# Altium footprint library SOP - SmallOutlinePackage.PcbLib: 21 footprints (part 2 of 2)
Each footprint in its own frame and in the unit in brackets; x right, y up, seen from the top. Pads: shape width x height; smd on the part's side, far side on the other; paste and mask are expansions set on the pad; w line width, h text height; cw(c..) or ccw(c..) is an arc to the next point about the centre after c.
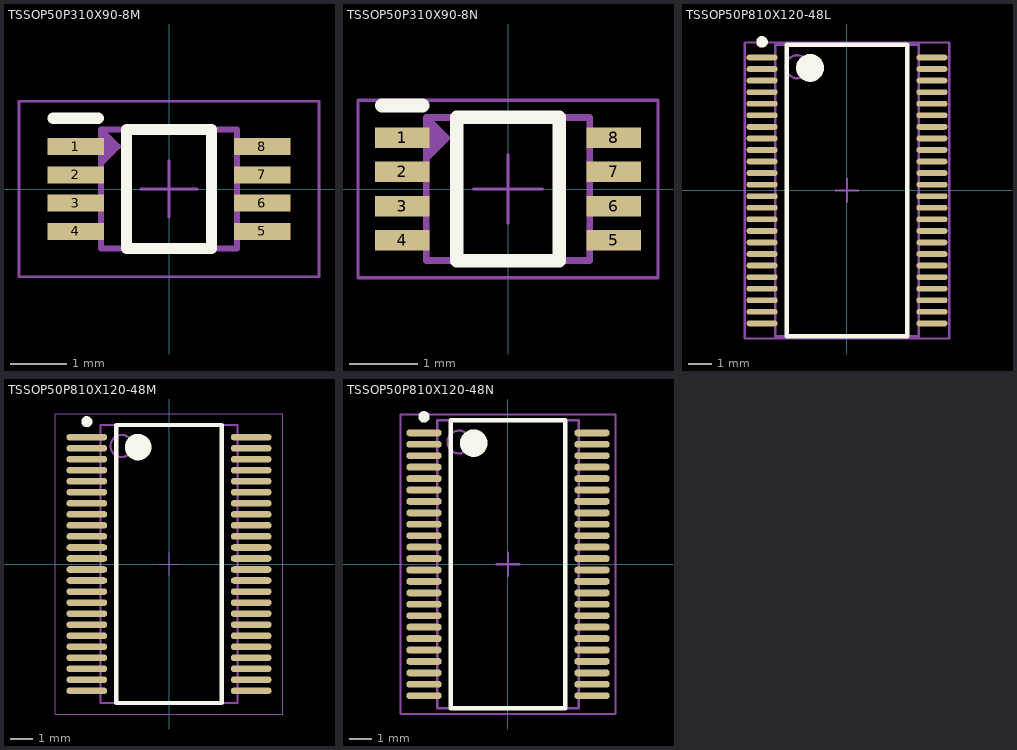
[diagram p1: the footprints below, top view; thin cyan lines are the x and y axes]

## TSSOP50P310X90-8M [mm] "TSSOP, 8-Leads, Body 2.1x2.4mm (max), Pitch 0.50mm, IPC Low Density"
height 0.9
pads (8):
  rect 1x0.3 smd: 1(-1.65,0.75) 2(-1.65,0.25) 3(-1.65,-0.25) 4(-1.65,-0.75) 5(1.65,-0.75) 6(1.65,-0.25) 7(1.65,0.25) 8(1.65,0.75)
Top Overlay:
  lines w0.2: -2.05,1.25 -1.25,1.25 ; -0.75,-1.05 -0.75,1.05 0.75,1.05 0.75,-1.05 -0.75,-1.05
TopBody:
  lines w0.1: -1.2,0.45 -0.9,0.75 -1.2,1.05 ; -1.2,0.55 -1,0.75 -1.2,0.95 ; -1.2,0.65 -1.1,0.75 -1.2,0.85 ; -1.2,1.05 -1.2,-1.05 1.2,-1.05 1.2,1.05 -1.2,1.05
  text ".Designator" at 0.254,-0.635 h0.5
TopCourtyard:
  lines w0.05: -0.5,0 0,0 ; 0,-0.5 0,0 ; 0,0.5 0,0 ; 0.5,0 0,0 ; -2.65,-1.55 -2.65,1.55 2.65,1.55 2.65,-1.55 -2.65,-1.55
3D body: height 0.9, standoff 0, extent -1.2,-1.05 1.2,1.05

## TSSOP50P310X90-8N [mm] "TSSOP, 8-Leads, Body 2.1x2.4mm (max), Pitch 0.50mm, IPC Medium Density"
height 0.9
pads (8):
  rect 0.8x0.3 smd: 1(-1.55,0.75) 2(-1.55,0.25) 3(-1.55,-0.25) 4(-1.55,-0.75) 5(1.55,-0.75) 6(1.55,-0.25) 7(1.55,0.25) 8(1.55,0.75)
Top Overlay:
  lines w0.2: -1.85,1.225 -1.25,1.225 ; -0.75,-1.05 -0.75,1.05 0.75,1.05 0.75,-1.05 -0.75,-1.05
TopBody:
  lines w0.1: -1.2,0.45 -0.9,0.75 -1.2,1.05 ; -1.2,0.55 -1,0.75 -1.2,0.95 ; -1.2,0.65 -1.1,0.75 -1.2,0.85 ; -1.2,1.05 -1.2,-1.05 1.2,-1.05 1.2,1.05 -1.2,1.05
  text ".Designator" at 0.254,-0.635 h0.5
TopCourtyard:
  lines w0.05: -0.5,0 0,0 ; 0,-0.5 0,0 ; 0,0.5 0,0 ; 0.5,0 0,0 ; -2.2,-1.3 -2.2,1.3 2.2,1.3 2.2,-1.3 -2.2,-1.3
3D body: height 0.9, standoff 0, extent -1.2,-1.05 1.2,1.05

## TSSOP50P810X120-48L [mm] "TSSOP, 48-Leads, Body 12.6x6.2mm (max), Pitch 0.50mm, IPC High Density"
height 1.2
pads (48):
  oval 1.35x0.25 smd: 1(-3.675,5.75) 2(-3.675,5.25) 3(-3.675,4.75) 4(-3.675,4.25) 5(-3.675,3.75) 6(-3.675,3.25) 7(-3.675,2.75) 8(-3.675,2.25) 9(-3.675,1.75) 10(-3.675,1.25) 11(-3.675,0.75) 12(-3.675,0.25) 13(-3.675,-0.25) 14(-3.675,-0.75) 15(-3.675,-1.25) 16(-3.675,-1.75) 17(-3.675,-2.25) 18(-3.675,-2.75) 19(-3.675,-3.25) 20(-3.675,-3.75) 21(-3.675,-4.25) 22(-3.675,-4.75) 23(-3.675,-5.25) 24(-3.675,-5.75) 25(3.675,-5.75) 26(3.675,-5.25) 27(3.675,-4.75) 28(3.675,-4.25) 29(3.675,-3.75) 30(3.675,-3.25) 31(3.675,-2.75) 32(3.675,-2.25) 33(3.675,-1.75) 34(3.675,-1.25) 35(3.675,-0.75) 36(3.675,-0.25) 37(3.675,0.25) 38(3.675,0.75) 39(3.675,1.25) 40(3.675,1.75) 41(3.675,2.25) 42(3.675,2.75) 43(3.675,3.25) 44(3.675,3.75) 45(3.675,4.25) 46(3.675,4.75) 47(3.675,5.25) 48(3.675,5.75)
Top Overlay:
  circle w0.25: c-3.675,6.425 r0.125
  circle w0.6: c-1.6,5.3 r0.3
  lines w0.2: -2.6,-6.3 -2.6,6.3 2.6,6.3 2.6,-6.3 -2.6,-6.3
TopBody:
  circle w0.1: c-2.15,5.35 r0.5
  lines w0.1: -3.1,-6.3 -3.1,6.3 3.1,6.3 3.1,-6.3 -3.1,-6.3
TopCourtyard:
  lines w0.1: -0.5,0 0.5,0 ; 0,-0.5 0,0.5 ; -4.425,-6.4 -4.425,6.4 4.425,6.4 4.425,-6.4 -4.425,-6.4
3D body: height 1.2, standoff 0.05, extent -3.1,-6.3 3.1,6.3

## TSSOP50P810X120-48M [mm] "TSSOP, 48-Leads, Body 12.6x6.2mm (max), Pitch 0.50mm, IPC Low Density"
height 1.2
pads (48):
  oval 1.85x0.3 smd: 1(-3.725,5.75) 2(-3.725,5.25) 3(-3.725,4.75) 4(-3.725,4.25) 5(-3.725,3.75) 6(-3.725,3.25) 7(-3.725,2.75) 8(-3.725,2.25) 9(-3.725,1.75) 10(-3.725,1.25) 11(-3.725,0.75) 12(-3.725,0.25) 13(-3.725,-0.25) 14(-3.725,-0.75) 15(-3.725,-1.25) 16(-3.725,-1.75) 17(-3.725,-2.25) 18(-3.725,-2.75) 19(-3.725,-3.25) 20(-3.725,-3.75) 21(-3.725,-4.25) 22(-3.725,-4.75) 23(-3.725,-5.25) 24(-3.725,-5.75) 25(3.725,-5.75) 26(3.725,-5.25) 27(3.725,-4.75) 28(3.725,-4.25) 29(3.725,-3.75) 30(3.725,-3.25) 31(3.725,-2.75) 32(3.725,-2.25) 33(3.725,-1.75) 34(3.725,-1.25) 35(3.725,-0.75) 36(3.725,-0.25) 37(3.725,0.25) 38(3.725,0.75) 39(3.725,1.25) 40(3.725,1.75) 41(3.725,2.25) 42(3.725,2.75) 43(3.725,3.25) 44(3.725,3.75) 45(3.725,4.25) 46(3.725,4.75) 47(3.725,5.25) 48(3.725,5.75)
Top Overlay:
  circle w0.6: c-1.4,5.3 r0.3
  circle w0.25: c-3.725,6.45 r0.125
  lines w0.2: -2.4,-6.3 2.4,-6.3 2.4,6.3 -2.4,6.3 -2.4,-6.3
TopBody:
  circle w0.1: c-2.15,5.35 r0.5
  lines w0.1: -3.1,-6.3 3.1,-6.3 3.1,6.3 -3.1,6.3 -3.1,-6.3
TopCourtyard:
  lines w0.05: -0.5,0 0.5,0 ; 0,-0.5 0,0.5 ; -5.15,-6.8 5.15,-6.8 5.15,6.8 -5.15,6.8 -5.15,-6.8
3D body: height 1.2, standoff 0.05, extent -3.1,-6.3 3.1,6.3

## TSSOP50P810X120-48N [mm] "TSSOP, 48-Leads, Body 12.6x6.2mm (max), Pitch 0.50mm, IPC Medium Density"
height 1.2
pads (48):
  oval 1.55x0.3 smd: 1(-3.675,5.75) 2(-3.675,5.25) 3(-3.675,4.75) 4(-3.675,4.25) 5(-3.675,3.75) 6(-3.675,3.25) 7(-3.675,2.75) 8(-3.675,2.25) 9(-3.675,1.75) 10(-3.675,1.25) 11(-3.675,0.75) 12(-3.675,0.25) 13(-3.675,-0.25) 14(-3.675,-0.75) 15(-3.675,-1.25) 16(-3.675,-1.75) 17(-3.675,-2.25) 18(-3.675,-2.75) 19(-3.675,-3.25) 20(-3.675,-3.75) 21(-3.675,-4.25) 22(-3.675,-4.75) 23(-3.675,-5.25) 24(-3.675,-5.75) 25(3.675,-5.75) 26(3.675,-5.25) 27(3.675,-4.75) 28(3.675,-4.25) 29(3.675,-3.75) 30(3.675,-3.25) 31(3.675,-2.75) 32(3.675,-2.25) 33(3.675,-1.75) 34(3.675,-1.25) 35(3.675,-0.75) 36(3.675,-0.25) 37(3.675,0.25) 38(3.675,0.75) 39(3.675,1.25) 40(3.675,1.75) 41(3.675,2.25) 42(3.675,2.75) 43(3.675,3.25) 44(3.675,3.75) 45(3.675,4.25) 46(3.675,4.75) 47(3.675,5.25) 48(3.675,5.75)
Top Overlay:
  circle w0.6: c-1.5,5.3 r0.3
  circle w0.25: c-3.675,6.45 r0.125
  lines w0.2: -2.5,-6.3 2.5,-6.3 2.5,6.3 -2.5,6.3 -2.5,-6.3
TopBody:
  circle w0.1: c-2.15,5.35 r0.5
  lines w0.1: -3.1,-6.3 3.1,-6.3 3.1,6.3 -3.1,6.3 -3.1,-6.3
TopCourtyard:
  lines w0.1: -0.5,0 0.5,0 ; 0,-0.5 0,0.5 ; -4.7,-6.55 4.7,-6.55 4.7,6.55 -4.7,6.55 -4.7,-6.55
3D body: height 1.2, standoff 0.05, extent -3.1,-6.3 3.1,6.3